# Altium footprint library 树莓派模块.PcbLib: 10 footprints
Each footprint in its own frame and in the unit in brackets; x right, y up, seen from the top. Pads: shape width x height; smd on the part's side, far side on the other; paste and mask are expansions set on the pad; w line width, h text height; cw(c..) or ccw(c..) is an arc to the next point about the centre after c.
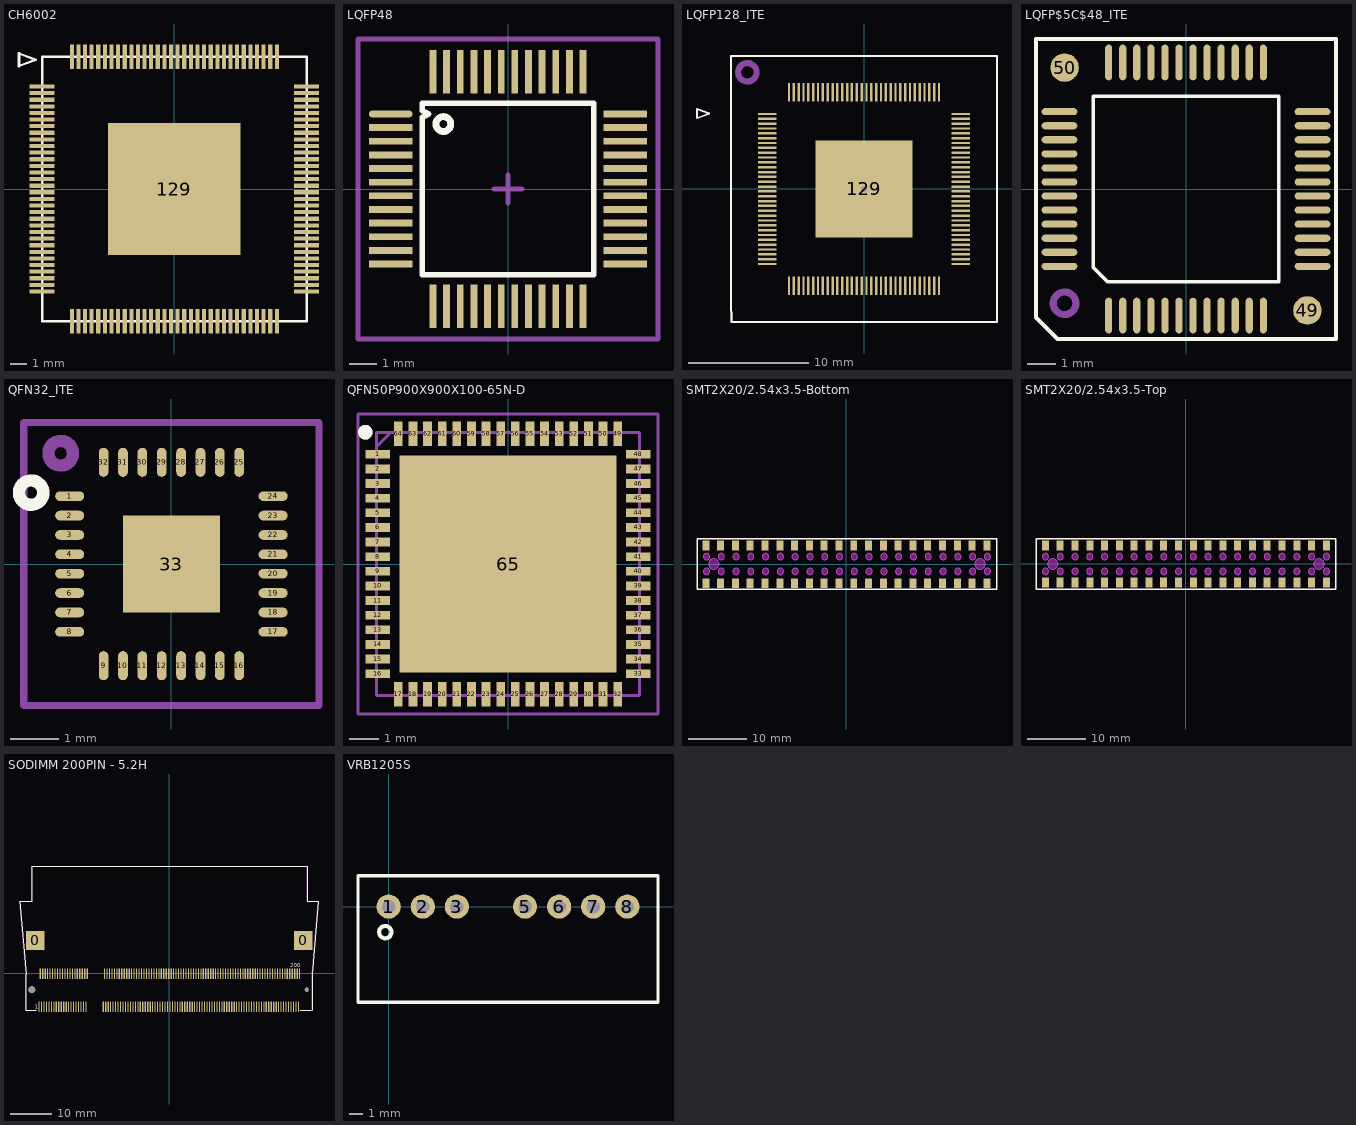
[diagram p0: the footprints below, top view; thin cyan lines are the x and y axes]

## CH6002 [mm]
pads (129):
  rect 1.5x0.25 smd: 1(-8,6.2) 2(-8,5.8) 3(-8,5.4) 4(-8,5) 5(-8,4.6) 6(-8,4.2) 7(-8,3.8) 8(-8,3.4) 9(-8,3) 10(-8,2.6) 11(-8,2.2) 12(-8,1.8) 13(-8,1.4) 14(-8,1) 15(-8,0.6) 16(-8,0.2) 17(-8,-0.2) 18(-8,-0.6) 19(-8,-1) 20(-8,-1.4) 21(-8,-1.8) 22(-8,-2.2) 23(-8,-2.6) 24(-8,-3) 25(-8,-3.4) 26(-8,-3.8) 27(-8,-4.2) 28(-8,-4.6) 29(-8,-5) 30(-8,-5.4) 31(-8,-5.8) 32(-8,-6.2) 65(8,-6.2) 66(8,-5.8) 67(8,-5.4) 68(8,-5) 69(8,-4.6) 70(8,-4.2) 71(8,-3.8) 72(8,-3.4) 73(8,-3) 74(8,-2.6) 75(8,-2.2) 76(8,-1.8) 77(8,-1.4) 78(8,-1) 79(8,-0.6) 80(8,-0.2) 81(8,0.2) 82(8,0.6) 83(8,1) 84(8,1.4) 85(8,1.8) 86(8,2.2) 87(8,2.6) 88(8,3) 89(8,3.4) 90(8,3.8) 91(8,4.2) 92(8,4.6) 93(8,5) 94(8,5.4) 95(8,5.8) 96(8,6.2)
  rect 0.25x1.5 smd: 33(-6.2,-8) 34(-5.8,-8) 35(-5.4,-8) 36(-5,-8) 37(-4.6,-8) 38(-4.2,-8) 39(-3.8,-8) 40(-3.4,-8) 41(-3,-8) 42(-2.6,-8) 43(-2.2,-8) 44(-1.8,-8) 45(-1.4,-8) 46(-1,-8) 47(-0.6,-8) 48(-0.2,-8) 49(0.2,-8) 50(0.6,-8) 51(1,-8) 52(1.4,-8) 53(1.8,-8) 54(2.2,-8) 55(2.6,-8) 56(3,-8) 57(3.4,-8) 58(3.8,-8) 59(4.2,-8) 60(4.6,-8) 61(5,-8) 62(5.4,-8) 63(5.8,-8) 64(6.2,-8) 97(6.2,8) 98(5.8,8) 99(5.4,8) 100(5,8) 101(4.6,8) 102(4.2,8) 103(3.8,8) 104(3.4,8) 105(3,8) 106(2.6,8) 107(2.2,8) 108(1.8,8) 109(1.4,8) 110(1,8) 111(0.6,8) 112(0.2,8) 113(-0.2,8) 114(-0.6,8) 115(-1,8) 116(-1.4,8) 117(-1.8,8) 118(-2.2,8) 119(-2.6,8) 120(-3,8) 121(-3.4,8) 122(-3.8,8) 123(-4.2,8) 124(-4.6,8) 125(-5,8) 126(-5.4,8) 127(-5.8,8) 128(-6.2,8)
  rect 8x8 smd: 129(0,0)
Top Overlay:
  lines w0.152: -9.395,7.436 -9.395,8.198 -8.379,7.817 -9.395,7.436 ; -8,-8 8,-8 8,8 -8,8 -8,-8

## LQFP48 [mm]
height 1.5
pads (48):
  oval 1.6x0.25 smd: 1(-4.3,2.75)
  rect 1.6x0.25 smd: 2(-4.3,2.25) 3(-4.3,1.75) 4(-4.3,1.25) 5(-4.3,0.75) 6(-4.3,0.25) 7(-4.3,-0.25) 8(-4.3,-0.75) 9(-4.3,-1.25) 10(-4.3,-1.75) 11(-4.3,-2.25) 12(-4.3,-2.75) 25(4.3,-2.75) 26(4.3,-2.25) 27(4.3,-1.75) 28(4.3,-1.25) 29(4.3,-0.75) 30(4.3,-0.25) 31(4.3,0.25) 32(4.3,0.75) 33(4.3,1.25) 34(4.3,1.75) 35(4.3,2.25) 36(4.3,2.75)
  rect 0.25x1.6 smd: 13(-2.75,-4.3) 14(-2.25,-4.3) 15(-1.75,-4.3) 16(-1.25,-4.3) 17(-0.75,-4.3) 18(-0.25,-4.3) 19(0.25,-4.3) 20(0.75,-4.3) 21(1.25,-4.3) 22(1.75,-4.3) 23(2.25,-4.3) 24(2.75,-4.3) 37(2.75,4.3) 38(2.25,4.3) 39(1.75,4.3) 40(1.25,4.3) 41(0.75,4.3) 42(0.25,4.3) 43(-0.25,4.3) 44(-0.75,4.3) 45(-1.25,4.3) 46(-1.75,4.3) 47(-2.25,4.3) 48(-2.75,4.3)
Top Overlay:
  circle w0.254: c-2.37,2.38 r0.272
  lines w0.2: -3.15,-3.15 -3.15,2.625 -2.9,2.75 -3.15,2.875 -3.15,3.15 3.15,3.15 3.15,-3.15 -3.15,-3.15
Mechanical 16:
  lines w0.2: -0.5,0 0,0 ; 0,-0.5 0,0 ; 0,0.5 0,0 ; 0.5,0 0,0 ; -5.5,-5.5 -5.5,5.5 5.5,5.5 5.5,-5.5 -5.5,-5.5

## LQFP128_ITE [mm]
pads (129):
  rect 1.5x0.195 smd: 1(-8,6.2) 2(-8,5.8) 3(-8,5.4) 4(-8,5) 5(-8,4.6) 6(-8,4.2) 7(-8,3.8) 8(-8,3.4) 9(-8,3) 10(-8,2.6) 11(-8,2.2) 12(-8,1.8) 13(-8,1.4) 14(-8,1) 15(-8,0.6) 16(-8,0.2) 17(-8,-0.2) 18(-8,-0.6) 19(-8,-1) 20(-8,-1.4) 21(-8,-1.8) 22(-8,-2.2) 23(-8,-2.6) 24(-8,-3) 25(-8,-3.4) 26(-8,-3.8) 27(-8,-4.2) 28(-8,-4.6) 29(-8,-5) 30(-8,-5.4) 31(-8,-5.8) 32(-8,-6.2) 65(8,-6.2) 66(8,-5.8) 67(8,-5.4) 68(8,-5) 69(8,-4.6) 70(8,-4.2) 71(8,-3.8) 72(8,-3.4) 73(8,-3) 74(8,-2.6) 75(8,-2.2) 76(8,-1.8) 77(8,-1.4) 78(8,-1) 79(8,-0.6) 80(8,-0.2) 81(8,0.2) 82(8,0.6) 83(8,1) 84(8,1.4) 85(8,1.8) 86(8,2.2) 87(8,2.6) 88(8,3) 89(8,3.4) 90(8,3.8) 91(8,4.2) 92(8,4.6) 93(8,5) 94(8,5.4) 95(8,5.8) 96(8,6.2)
  rect 0.195x1.5 smd: 33(-6.2,-8) 34(-5.8,-8) 35(-5.4,-8) 36(-5,-8) 37(-4.6,-8) 38(-4.2,-8) 39(-3.8,-8) 40(-3.4,-8) 41(-3,-8) 42(-2.6,-8) 43(-2.2,-8) 44(-1.8,-8) 45(-1.4,-8) 46(-1,-8) 47(-0.6,-8) 48(-0.2,-8) 49(0.2,-8) 50(0.6,-8) 51(1,-8) 52(1.4,-8) 53(1.8,-8) 54(2.2,-8) 55(2.6,-8) 56(3,-8) 57(3.4,-8) 58(3.8,-8) 59(4.2,-8) 60(4.6,-8) 61(5,-8) 62(5.4,-8) 63(5.8,-8) 64(6.2,-8) 97(6.2,8) 98(5.8,8) 99(5.4,8) 100(5,8) 101(4.6,8) 102(4.2,8) 103(3.8,8) 104(3.4,8) 105(3,8) 106(2.6,8) 107(2.2,8) 108(1.8,8) 109(1.4,8) 110(1,8) 111(0.6,8) 112(0.2,8) 113(-0.2,8) 114(-0.6,8) 115(-1,8) 116(-1.4,8) 117(-1.8,8) 118(-2.2,8) 119(-2.6,8) 120(-3,8) 121(-3.4,8) 122(-3.8,8) 123(-4.2,8) 124(-4.6,8) 125(-5,8) 126(-5.4,8) 127(-5.8,8) 128(-6.2,8)
  rect 8x8 / inner round 0.5 / far side rect 8x8 hole 0.5: 129(0,0)
Top Overlay:
  lines w0.152: -13.814,5.861 -12.798,6.242 -13.814,6.623 -13.814,5.861 ; -11,-9.248 -10.95,-11 11,-11 11,11 -11,11 -11,-9.248
Mechanical 29:
  circle w0.508: c-9.652,9.652 r0.762
  lines w0.152: -11,-9.248 -11,11 11,11 11,-11 -10.95,-11 -11,-9.248
  text "'.Designator'" at -6.096,-1.143 h1.02
3D body "LQFP128 14x14.STEP": height 1.45, standoff 0, extent -8.005,-8.003 8.001,8.003

## LQFP$5C$48_ITE [mm]
pads (50):
  oval 0.254x1.27 smd: 1(-2.75,-4.5) 2(-2.25,-4.5) 3(-1.75,-4.5) 4(-1.25,-4.5) 5(-0.75,-4.5) 6(-0.25,-4.5) 7(0.25,-4.5) 8(0.75,-4.5) 9(1.25,-4.5) 10(1.75,-4.5) 11(2.25,-4.5) 12(2.75,-4.5) 25(2.75,4.5) 26(2.25,4.5) 27(1.75,4.5) 28(1.25,4.5) 29(0.75,4.5) 30(0.25,4.5) 31(-0.25,4.5) 32(-0.75,4.5) 33(-1.25,4.5) 34(-1.75,4.5) 35(-2.25,4.5) 36(-2.75,4.5)
  oval 1.27x0.254 smd: 13(4.5,-2.75) 14(4.5,-2.25) 15(4.5,-1.75) 16(4.5,-1.25) 17(4.5,-0.75) 18(4.5,-0.25) 19(4.5,0.25) 20(4.5,0.75) 21(4.5,1.25) 22(4.5,1.75) 23(4.5,2.25) 24(4.5,2.75) 37(-4.5,2.75) 38(-4.5,2.25) 39(-4.5,1.75) 40(-4.5,1.25) 41(-4.5,0.75) 42(-4.5,0.25) 43(-4.5,-0.25) 44(-4.5,-0.75) 45(-4.5,-1.25) 46(-4.5,-1.75) 47(-4.5,-2.25) 48(-4.5,-2.75)
  round 1.016 smd: 49(4.318,-4.318) 50(-4.318,4.318)
Top Overlay:
  lines w0.127: -5.334,-4.572 -5.334,5.334 5.334,5.334 5.334,-5.334 -4.572,-5.334 -5.334,-4.572 ; -3.302,-2.794 -3.302,3.302 3.302,3.302 3.302,-3.302 -2.794,-3.302 -3.302,-2.794
Mechanical 29:
  circle w0.254: c-4.318,-4.064 r0.402
  lines w0.127: -5.334,-4.572 -4.572,-5.334 5.334,-5.334 5.334,5.334 -5.334,5.334 -5.334,-4.572
  text "'.Designator'" at -5.842,-1.016 h1.02
3D body "LQFP48 7X7.STEP": height 1.45, standoff 0, extent -4.5,-4.503 4.506,4.503

## QFN32_ITE [mm]
pads (33):
  oval 0.6x0.2 smd: 1(-2.1,1.4) 2(-2.1,1) 3(-2.1,0.6) 4(-2.1,0.2) 5(-2.1,-0.2) 6(-2.1,-0.6) 7(-2.1,-1) 8(-2.1,-1.4) 17(2.1,-1.4) 18(2.1,-1) 19(2.1,-0.6) 20(2.1,-0.2) 21(2.1,0.2) 22(2.1,0.6) 23(2.1,1) 24(2.1,1.4)
  oval 0.2x0.6 smd: 9(-1.4,-2.1) 10(-1,-2.1) 11(-0.6,-2.1) 12(-0.2,-2.1) 13(0.2,-2.1) 14(0.6,-2.1) 15(1,-2.1) 16(1.4,-2.1) 25(1.4,2.1) 26(1,2.1) 27(0.6,2.1) 28(0.2,2.1) 29(-0.2,2.1) 30(-0.6,2.1) 31(-1,2.1) 32(-1.4,2.1)
  rect 2x2 smd: 33(0,0)
Top Overlay:
  circle w0.254: c-2.896,1.473 r0.251
Mechanical 29:
  circle w0.254: c-2.286,2.286 r0.254
  lines w0.152: -3.048,-2.921 3.048,-2.921 3.048,2.921 -3.048,2.921 -3.048,-2.921
  text "'.Designator'" at -5.461,-1.016 h1.02
3D body: height 1, standoff 0, extent -2.159,-2.032 2.159,2.159

## QFN50P900X900X100-65N-D [mm] "QFN-65"
pads (65):
  rect 0.85x0.3 smd: 1(-4.45,3.75) 2(-4.45,3.25) 3(-4.45,2.75) 4(-4.45,2.25) 5(-4.45,1.75) 6(-4.45,1.25) 7(-4.45,0.75) 8(-4.45,0.25) 9(-4.45,-0.25) 10(-4.45,-0.75) 11(-4.45,-1.25) 12(-4.45,-1.75) 13(-4.45,-2.25) 14(-4.45,-2.75) 15(-4.45,-3.25) 16(-4.45,-3.75) 33(4.45,-3.75) 34(4.45,-3.25) 35(4.45,-2.75) 36(4.45,-2.25) 37(4.45,-1.75) 38(4.45,-1.25) 39(4.45,-0.75) 40(4.45,-0.25) 41(4.45,0.25) 42(4.45,0.75) 43(4.45,1.25) 44(4.45,1.75) 45(4.45,2.25) 46(4.45,2.75) 47(4.45,3.25) 48(4.45,3.75)
  rect 0.3x0.85 smd: 17(-3.75,-4.45) 18(-3.25,-4.45) 19(-2.75,-4.45) 20(-2.25,-4.45) 21(-1.75,-4.45) 22(-1.25,-4.45) 23(-0.75,-4.45) 24(-0.25,-4.45) 25(0.25,-4.45) 26(0.75,-4.45) 27(1.25,-4.45) 28(1.75,-4.45) 29(2.25,-4.45) 30(2.75,-4.45) 31(3.25,-4.45) 32(3.75,-4.45) 49(3.75,4.45) 50(3.25,4.45) 51(2.75,4.45) 52(2.25,4.45) 53(1.75,4.45) 54(1.25,4.45) 55(0.75,4.45) 56(0.25,4.45) 57(-0.25,4.45) 58(-0.75,4.45) 59(-1.25,4.45) 60(-1.75,4.45) 61(-2.25,4.45) 62(-2.75,4.45) 63(-3.25,4.45) 64(-3.75,4.45)
  rect 7.4x7.4 smd: 65(0,0)
Top Overlay:
  circle w0.25: c-4.875,4.5 r0.125
Mechanical 13:
  lines w0.1: -4.5,4 -4,4.5 ; -4.5,-4.5 -4.5,4.5 4.5,4.5 4.5,-4.5 -4.5,-4.5
Mechanical 15:
  lines w0.05: -5.125,-5.125 -5.125,5.125 5.125,5.125 5.125,-5.125 -5.125,-5.125
Mechanical 29:
  circle w0.25: c-4.875,4.5 r0.125
  lines w0.1: -5.125,-5.125 5.125,-5.125 5.125,5.125 -5.125,5.125 -5.125,-5.125
  text "'.Designator'" at -5.715,-1.27 h1.02
3D body "LAN9514-JZX.stp": height 1, standoff 0, extent -4.55,-4.55 4.55,4.55

## SMT2X20/2.54x3.5-Bottom [mm]
pads (40):
  rect 1.2x1.7 smd: 1(-24.13,3.25) 2(-24.13,-3.25) 3(-21.59,3.25) 4(-21.59,-3.25) 5(-19.05,3.25) 6(-19.05,-3.25) 7(-16.51,3.25) 8(-16.51,-3.25) 9(-13.97,3.25) 10(-13.97,-3.25) 11(-11.43,3.25) 12(-11.43,-3.25) 13(-8.89,3.25) 14(-8.89,-3.25) 15(-6.35,3.25) 16(-6.35,-3.25) 17(-3.81,3.25) 18(-3.81,-3.25) 19(-1.27,3.25) 20(-1.27,-3.25) 21(1.27,3.25) 22(1.27,-3.25) 23(3.81,3.25) 24(3.81,-3.25) 25(6.35,3.25) 26(6.35,-3.25) 27(8.89,3.25) 28(8.89,-3.25) 29(11.43,3.25) 30(11.43,-3.25) 31(13.97,3.25) 32(13.97,-3.25) 33(16.51,3.25) 34(16.51,-3.25) 35(19.05,3.25) 36(19.05,-3.25) 37(21.59,3.25) 38(21.59,-3.25) 39(24.13,3.25) 40(24.13,-3.25)
Top Overlay:
  lines w0.254: 25.846,-4.268 -25.655,-4.268 -25.625,-4.268 -25.625,4.367 25.876,4.367 25.876,-4.268
Keep-Out Layer:
  drawing of 43 lines, arcs and shapes, not listed
Mechanical 1:
  circle w0.1: c-22.765,0.05 r0.9
  circle w0.1: c22.955,0.05 r0.9
  circle w0.05: c1.365,1.32 r0.55
  circle w0.05: c24.225,1.32 r0.55
  circle w0.05: c3.905,1.32 r0.55
  circle w0.05: c-16.415,1.32 r0.55
  circle w0.05: c-1.175,1.32 r0.55
  circle w0.05: c-3.715,1.32 r0.55
  circle w0.05: c-13.875,1.32 r0.55
  circle w0.05: c-11.335,1.32 r0.55
  circle w0.05: c-8.795,1.32 r0.55
  circle w0.05: c-6.255,1.32 r0.55
  circle w0.05: c-21.495,1.32 r0.55
  circle w0.05: c-18.955,1.32 r0.55
  circle w0.05: c16.605,1.32 r0.55
  circle w0.05: c21.685,1.32 r0.55
  circle w0.05: c6.445,1.32 r0.55
  circle w0.05: c11.525,1.32 r0.55
  circle w0.05: c19.145,1.32 r0.55
  circle w0.05: c8.985,1.32 r0.55
  circle w0.05: c14.065,1.32 r0.55
  circle w0.05: c-24.035,1.32 r0.55
  circle w0.05: c24.225,-1.22 r0.55
  circle w0.05: c16.605,-1.22 r0.55
  circle w0.05: c3.905,-1.22 r0.55
  circle w0.05: c21.685,-1.22 r0.55
  circle w0.05: c19.145,-1.22 r0.55
  circle w0.05: c11.525,-1.22 r0.55
  circle w0.05: c14.065,-1.22 r0.55
  circle w0.05: c6.445,-1.22 r0.55
  circle w0.05: c8.985,-1.22 r0.55
  circle w0.05: c-1.175,-1.22 r0.55
  circle w0.05: c-8.795,-1.22 r0.55
  circle w0.05: c-6.255,-1.22 r0.55
  circle w0.05: c-16.415,-1.22 r0.55
  circle w0.05: c-18.955,-1.22 r0.55
  circle w0.05: c-13.875,-1.22 r0.55
  circle w0.05: c-21.495,-1.22 r0.55
  circle w0.05: c-11.335,-1.22 r0.55
  circle w0.05: c1.365,-1.22 r0.55
  circle w0.05: c-3.715,-1.22 r0.55
  circle w0.05: c-24.035,-1.22 r0.55
3D body "2.54-3.55.STEP": height 3.77, standoff -0.15, extent -25.505,-3.506 25.695,3.694

## SMT2X20/2.54x3.5-Top [mm]
pads (40):
  rect 1.2x1.7 smd: 1(-24.13,-3.2) 2(-24.13,3.2) 3(-21.59,-3.2) 4(-21.59,3.2) 5(-19.05,-3.2) 6(-19.05,3.2) 7(-16.51,-3.2) 8(-16.51,3.2) 9(-13.97,-3.2) 10(-13.97,3.2) 11(-11.43,-3.2) 12(-11.43,3.2) 13(-8.89,-3.2) 14(-8.89,3.2) 15(-6.35,-3.2) 16(-6.35,3.2) 17(-3.81,-3.2) 18(-3.81,3.2) 19(-1.27,-3.2) 20(-1.27,3.2) 21(1.27,-3.2) 22(1.27,3.2) 23(3.81,-3.2) 24(3.81,3.2) 25(6.35,-3.2) 26(6.35,3.2) 27(8.89,-3.2) 28(8.89,3.2) 29(11.43,-3.2) 30(11.43,3.2) 31(13.97,-3.2) 32(13.97,3.2) 33(16.51,-3.2) 34(16.51,3.2) 35(19.05,-3.2) 36(19.05,3.2) 37(21.59,-3.2) 38(21.59,3.2) 39(24.13,-3.2) 40(24.13,3.2)
Top Overlay:
  lines w0.254: 25.751,-4.318 -25.751,-4.318 -25.72,-4.318 -25.72,4.317 25.781,4.317 25.781,-4.318
Keep-Out Layer:
  drawing of 43 lines, arcs and shapes, not listed
Mechanical 1:
  circle w0.1: c-22.86,0 r0.9
  circle w0.1: c22.86,0 r0.9
  circle w0.05: c1.27,1.27 r0.55
  circle w0.05: c24.13,1.27 r0.55
  circle w0.05: c3.81,1.27 r0.55
  circle w0.05: c-16.51,1.27 r0.55
  circle w0.05: c-1.27,1.27 r0.55
  circle w0.05: c-3.81,1.27 r0.55
  circle w0.05: c-13.97,1.27 r0.55
  circle w0.05: c-11.43,1.27 r0.55
  circle w0.05: c-8.89,1.27 r0.55
  circle w0.05: c-6.35,1.27 r0.55
  circle w0.05: c-21.59,1.27 r0.55
  circle w0.05: c-19.05,1.27 r0.55
  circle w0.05: c16.51,1.27 r0.55
  circle w0.05: c21.59,1.27 r0.55
  circle w0.05: c6.35,1.27 r0.55
  circle w0.05: c11.43,1.27 r0.55
  circle w0.05: c19.05,1.27 r0.55
  circle w0.05: c8.89,1.27 r0.55
  circle w0.05: c13.97,1.27 r0.55
  circle w0.05: c-24.13,1.27 r0.55
  circle w0.05: c24.13,-1.27 r0.55
  circle w0.05: c16.51,-1.27 r0.55
  circle w0.05: c3.81,-1.27 r0.55
  circle w0.05: c21.59,-1.27 r0.55
  circle w0.05: c19.05,-1.27 r0.55
  circle w0.05: c11.43,-1.27 r0.55
  circle w0.05: c13.97,-1.27 r0.55
  circle w0.05: c6.35,-1.27 r0.55
  circle w0.05: c8.89,-1.27 r0.55
  circle w0.05: c-1.27,-1.27 r0.55
  circle w0.05: c-8.89,-1.27 r0.55
  circle w0.05: c-6.35,-1.27 r0.55
  circle w0.05: c-16.51,-1.27 r0.55
  circle w0.05: c-19.05,-1.27 r0.55
  circle w0.05: c-13.97,-1.27 r0.55
  circle w0.05: c-21.59,-1.27 r0.55
  circle w0.05: c-11.43,-1.27 r0.55
  circle w0.05: c1.27,-1.27 r0.55
  circle w0.05: c-3.81,-1.27 r0.55
  circle w0.05: c-24.13,-1.27 r0.55
3D body "2.54-3.55.STEP": height 3.77, standoff -0.15, extent -25.6,-3.556 25.6,3.644

## SODIMM 200PIN - 5.2H [mm] "200 位 SODIMM DDR2 SDRAM 表面贴装"
height 5.2
pads (204):
  round 1.7 hole 1.6: 0(-33.4,-3.95)
  rect 4.5x4.6 smd: 0(-32.55,8.05) 0(32.55,8.05)
  oval 0.32x1.2 hole 1.1: 0(33.4,-3.95)
  rect 0.279x2.55 smd: 1(-31.65,-8.05) 2(-31.35,-0.05) 3(-31.05,-8.05) 4(-30.75,-0.05) 5(-30.45,-8.05) 6(-30.15,-0.05) 7(-29.85,-8.05) 8(-29.55,-0.05) 9(-29.25,-8.05) 10(-28.95,-0.05) 11(-28.65,-8.05) 12(-28.35,-0.05) 13(-28.05,-8.05) 14(-27.75,-0.05) 15(-27.45,-8.05) 16(-27.15,-0.05) 17(-26.85,-8.05) 18(-26.55,-0.05) 19(-26.25,-8.05) 20(-25.95,-0.05) 21(-25.65,-8.05) 22(-25.35,-0.05) 23(-25.05,-8.05) 24(-24.75,-0.05) 25(-24.45,-8.05) 26(-24.15,-0.05) 27(-23.85,-8.05) 28(-23.55,-0.05) 29(-23.25,-8.05) 30(-22.95,-0.05) 31(-22.65,-8.05) 32(-22.35,-0.05) 33(-22.05,-8.05) 34(-21.75,-0.05) 35(-21.45,-8.05) 36(-21.15,-0.05) 37(-20.85,-8.05) 38(-20.55,-0.05) 39(-20.25,-8.05) 40(-19.95,-0.05) 41(-16.05,-8.05) 42(-15.75,-0.05) 43(-15.45,-8.05) 44(-15.15,-0.05) 45(-14.85,-8.05) 46(-14.55,-0.05) 47(-14.25,-8.05) 48(-13.95,-0.05) 49(-13.65,-8.05) 50(-13.35,-0.05) 51(-13.05,-8.05) 52(-12.75,-0.05) 53(-12.45,-8.05) 54(-12.15,-0.05) 55(-11.85,-8.05) 56(-11.55,-0.05) 57(-11.25,-8.05) 58(-10.95,-0.05) 59(-10.65,-8.05) 60(-10.35,-0.05) 61(-10.05,-8.05) 62(-9.75,-0.05) 63(-9.45,-8.05) 64(-9.15,-0.05) 65(-8.85,-8.05) 66(-8.55,-0.05) 67(-8.25,-8.05) 68(-7.95,-0.05) 69(-7.65,-8.05) 70(-7.35,-0.05) 71(-7.05,-8.05) 72(-6.75,-0.05) 73(-6.45,-8.05) 74(-6.15,-0.05) 75(-5.85,-8.05) 76(-5.55,-0.05) 77(-5.25,-8.05) 78(-4.95,-0.05) 79(-4.65,-8.05) 80(-4.35,-0.05) 81(-4.05,-8.05) 82(-3.75,-0.05) 83(-3.45,-8.05) 84(-3.15,-0.05) 85(-2.85,-8.05) 86(-2.55,-0.05) 87(-2.25,-8.05) 88(-1.95,-0.05) 89(-1.65,-8.05) 90(-1.35,-0.05) 91(-1.05,-8.05) 92(-0.75,-0.05) 93(-0.45,-8.05) 94(-0.15,-0.05) 95(0.15,-8.05) 96(0.45,-0.05) 97(0.75,-8.05) 98(1.05,-0.05) 99(1.35,-8.05) 100(1.65,-0.05) 101(1.95,-8.05) 102(2.25,-0.05) 103(2.55,-8.05) 104(2.85,-0.05) 105(3.15,-8.05) 106(3.45,-0.05) 107(3.75,-8.05) 108(4.05,-0.05) 109(4.35,-8.05) 110(4.65,-0.05) 111(4.95,-8.05) 112(5.25,-0.05) 113(5.55,-8.05) 114(5.85,-0.05) 115(6.15,-8.05) 116(6.45,-0.05) 117(6.75,-8.05) 118(7.05,-0.05) 119(7.35,-8.05) 120(7.65,-0.05) 121(7.95,-8.05) 122(8.25,-0.05) 123(8.55,-8.05) 124(8.85,-0.05) 125(9.15,-8.05) 126(9.45,-0.05) 127(9.75,-8.05) 128(10.05,-0.05) 129(10.35,-8.05) 130(10.65,-0.05) 131(10.95,-8.05) 132(11.25,-0.05) 133(11.55,-8.05) 134(11.85,-0.05) 135(12.15,-8.05) 136(12.45,-0.05) 137(12.75,-8.05) 138(13.05,-0.05) 139(13.35,-8.05) 140(13.65,-0.05) 141(13.95,-8.05) 142(14.25,-0.05) 143(14.55,-8.05) 144(14.85,-0.05) 145(15.15,-8.05) 146(15.45,-0.05) 147(15.75,-8.05) 148(16.05,-0.05) 149(16.35,-8.05) 150(16.65,-0.05) 151(16.95,-8.05) 152(17.25,-0.05) 153(17.55,-8.05) 154(17.85,-0.05) 155(18.15,-8.05) 156(18.45,-0.05) 157(18.75,-8.05) 158(19.05,-0.05) 159(19.35,-8.05) 160(19.65,-0.05) 161(19.95,-8.05) 162(20.25,-0.05) 163(20.55,-8.05) 164(20.85,-0.05) 165(21.15,-8.05) 166(21.45,-0.05) 167(21.75,-8.05) 168(22.05,-0.05) 169(22.35,-8.05) 170(22.65,-0.05) 171(22.95,-8.05) 172(23.25,-0.05) 173(23.55,-8.05) 174(23.85,-0.05) 175(24.15,-8.05) 176(24.45,-0.05) 177(24.75,-8.05) 178(25.05,-0.05) 179(25.35,-8.05) 180(25.65,-0.05) 181(25.95,-8.05) 182(26.25,-0.05) 183(26.55,-8.05) 184(26.85,-0.05) 185(27.15,-8.05) 186(27.45,-0.05) 187(27.75,-8.05) 188(28.05,-0.05) 189(28.35,-8.05) 190(28.65,-0.05) 191(28.95,-8.05) 192(29.25,-0.05) 193(29.55,-8.05) 194(29.85,-0.05) 195(30.15,-8.05) 196(30.45,-0.05) 197(30.75,-8.05) 198(31.05,-0.05) 199(31.35,-8.05) 200(31.65,-0.05)
Top Overlay:
  lines w0.254: -36.384,17.55 -33.302,17.55 -33.302,26.05 33.574,26.05 33.574,17.55 36.35,17.55 34.8,-0.15 34.8,-8.95 ; -36.35,17.55 -34.8,-0.15 -34.8,-8.95 -32.35,-8.95 ; 31.85,-8.95 34.45,-8.95
  text "1" at -32.666,-8.558 h1
  text "200" at 29.31,1.551 h1
Mechanical 29:
  lines w0.254: -36.511,17.55 -33.429,17.55 -33.429,26.05 33.447,26.05 33.447,17.55 36.223,17.55 34.673,-0.15 34.673,-8.95 ; -36.477,17.55 -34.927,-0.15 -34.927,-8.95 -32.477,-8.95 ; 31.723,-8.95 34.323,-8.95
  text "200" at 29.183,1.551 h1
  text "1" at -32.793,-8.558 h1
  text "'.Designator'" at -29.591,-6.731 h2.54
3D body "DDR2座子.stp": height 5.26, standoff -0.92, extent -35.75,-8.755 35.75,17.8

## VRB1205S [mm] "DCDC模块"
height 12
pads (7):
  round 1.8 hole 1: 1(0,0) 2(2.54,0) 3(5.08,0) 5(10.16,0) 6(12.7,0) 7(15.24,0) 8(17.78,0)
Top Overlay:
  circle w0.3: c-0.254,-1.905 r0.458
  lines w0.254: -2.286,-7.112 -2.286,2.286 20.066,2.286 20.066,-7.112 -2.286,-7.112
Mechanical 15:
  lines w0.152: -2.286,-7.112 20.066,-7.112 20.066,2.286 -2.286,2.286 -2.286,-7.112
  text "'.Designator'" at 2.921,-3.683 h2.03
3D body "VRB_S-6WR3.stp": height 12.1, standoff -4, extent -2.11,-7.112 19.89,2.388